# EAGLE library part RT7258GSP (library gcp)
The RT7258 is a synchronous step-down DC/DC converter with an integrated high side internal power MOSFET and a gate driver for a low side external power MOSFET. It can deliver up to 8A output current from a 4.5V to 24V input supply.
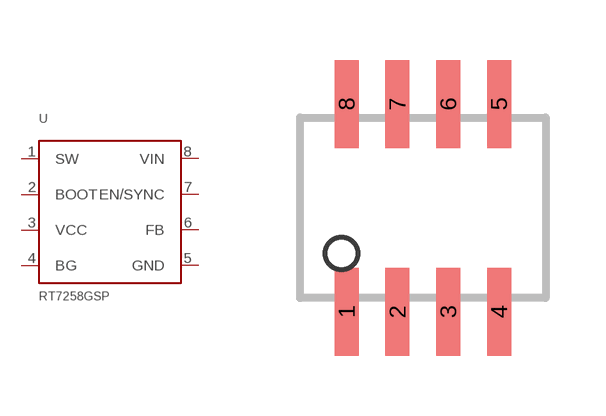
[diagram p0: symbol with the pads of SOP08; footprint SOP08]

Designator prefix U

## RT7258GSPSOP  [SOP08]
1  SW  out
2  BOOT
3  VCC
4  BG
5  GND
6  FB
7  EN/SYNC
8  VIN  in

## Footprint SOP08 (pad centres in mm)
SMALL OUTLINE PACKAGE
smd 0.6 x 2.2: 1 -1.905,-2.6; 2 -0.635,-2.6; 3 0.635,-2.6; 4 1.905,-2.6; 5 1.905,2.6; 6 0.635,2.6; 7 -0.635,2.6; 8 -1.905,2.6